# EAGLE library part CONN_PINHEADER-2X5 (library psas_eagle_library)
2mm pitch double row pinheader 2x5
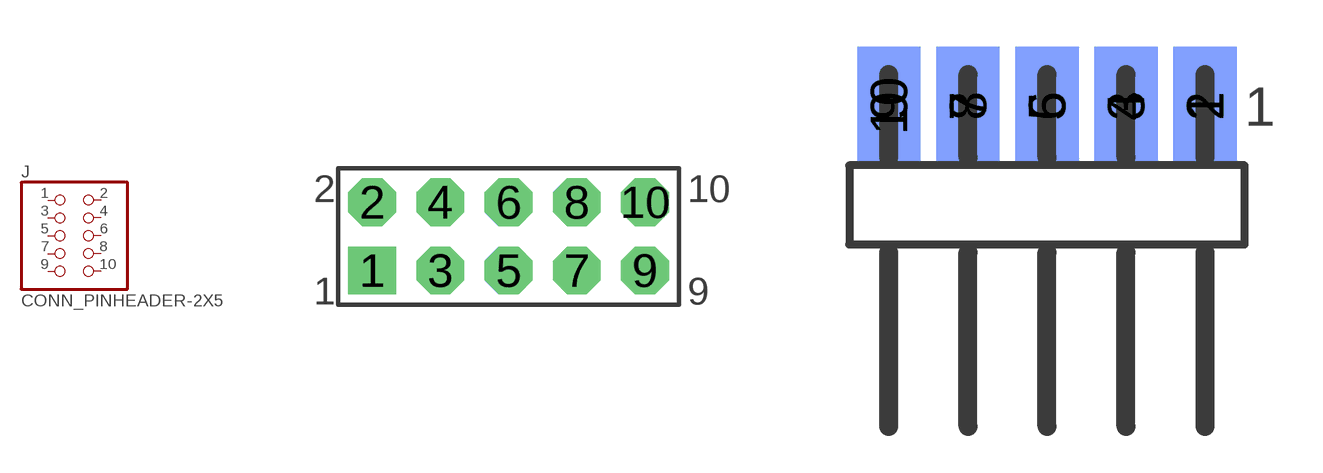
[diagram p20: symbol with the pads of 2MM-2X5-HEADER; footprints 2MM-2X5-HEADER, 0.1_IN-PINHD-2X5-EDGEON]

Designator prefix J

## CONN_PINHEADER-2X5  [2MM-2X5-HEADER]
1  1  pas
2  2  pas
3  3  pas
4  4  pas
5  5  pas
6  6  pas
7  7  pas
8  8  pas
9  9  pas
10  10  pas

## CONN_PINHEADER-2X5-0.1_EDGEON  [0.1_IN-PINHD-2X5-EDGEON]
Pads as for 2MM-2X5-HEADER

## CONN_PINHEADER-2X5-RECEPTACLE_W/PINS  [2MM-2X5-RECEPTACLE_SMT_W/LOCATOR_PINS]
Pads as for 2MM-2X5-HEADER

## Footprint 2MM-2X5-HEADER (pad centres in mm)
2mm pinheader. 52 mil pad diameter to shoot 8 mil design rules.
drill 0.889 pad 1.321 square: 1 -4,-1
drill 0.889 pad 1.321 octagon: 2 -4,1; 3 -2,-1; 4 -2,1; 5 0,-1; 6 0,1; 7 2,-1; 8 2,1; 9 4,-1; 10 4,1

## Footprint 0.1_IN-PINHD-2X5-EDGEON (pad centres in mm)
Standard 0.1" pinheader attaches to edge of PCB Ideal for 0.075" thick PCB, acceptable for 0.05" material if pins are bent over slightly.
smd 2.032 x 3.81: 1 5.08,1.905; 3 2.54,1.905; 5 0,1.905; 7 -2.54,1.905; 9 -5.08,1.905
smd 2.032 x 3.81 bottom: 2 5.08,1.905; 4 2.54,1.905; 6 0,1.905; 8 -2.54,1.905; 10 -5.08,1.905

## Footprint 2MM-2X5-RECEPTACLE_SMT_W/LOCATOR_PINS (pad centres in mm)
2mm, 2x5 receptacle, surface mount with locator pins. Note mirrored pin numbers.
smd 0.89 x 2.54: 1 -4,2.54; 2 -4,-2.46; 3 -2,2.54; 4 -2,-2.46; 5 0,2.54; 6 0,-2.46; 7 2,2.54; 8 2,-2.46; 9 4,2.54; 10 4,-2.46
hole 0.042 at -3,0
hole 0.042 at 3,0